# EAGLE library part ADS1262 (library ads1262)
ADS126x 32-Bit, Precision, 38-kSPS, Analog-to-Digital Converter (ADC) with Programmable Gain Amplifier (PGA) and Voltage Reference Texas Instruments selon http://www.ti.com/lit/gpn/ads1262 by HN2015
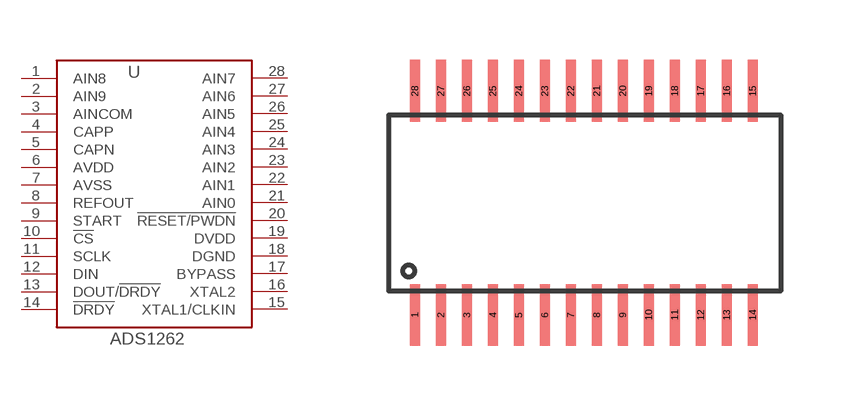
[diagram p0: symbol with the pads of TSSOP28; footprint TSSOP28]

Designator prefix U

## ADS1262IPW  [TSSOP28]
1  AIN8  pas
2  AIN9  pas
3  AINCOM  pas
4  CAPP  out
5  CAPN  out
6  AVDD  pwr
7  AVSS  pwr
8  REFOUT  out
9  START  in
10  !CS  in
11  SCLK  in
12  DIN  in
13  DOUT/!DRDY  out
14  !DRDY  out
15  XTAL1/CLKIN  in
16  XTAL2  out
17  BYPASS  out
18  DGND  sup
19  DVDD  pwr
20  !RESET/PWDN  in
21  AIN0  pas
22  AIN1  pas
23  AIN2  pas
24  AIN3  pas
25  AIN4  pas
26  AIN5  pas
27  AIN6  pas
28  AIN7  pas

## Footprint TSSOP28 (pad centres in mm)
selon http://www.ti.com/lit/gpn/ads1262
smd 0.25 x 1.55: 1 -4.25,-2.8; 2 -3.6,-2.8; 3 -2.95,-2.8; 4 -2.3,-2.8; 5 -1.65,-2.8; 6 -1,-2.8; 7 -0.35,-2.8; 8 0.3,-2.8; 9 0.95,-2.8; 10 1.6,-2.8; 11 2.25,-2.8; 12 2.9,-2.8; 13 3.55,-2.8; 14 4.2,-2.8; 15 4.2,2.8; 16 3.55,2.8; 17 2.9,2.8; 18 2.25,2.8; 19 1.6,2.8; 20 0.95,2.8; 21 0.3,2.8; 22 -0.35,2.8; 23 -1,2.8; 24 -1.65,2.8; 25 -2.3,2.8; 26 -2.95,2.8; 27 -3.6,2.8; 28 -4.25,2.8